# Altium footprint library RESDFN3_500X400X120L120X120N.PcbLib: 1 footprints
Each footprint in its own frame and in the unit in brackets; x right, y up, seen from the top. Pads: shape width x height; smd on the part's side, far side on the other; paste and mask are expansions set on the pad; w line width, h text height; cw(c..) or ccw(c..) is an arc to the next point about the centre after c.
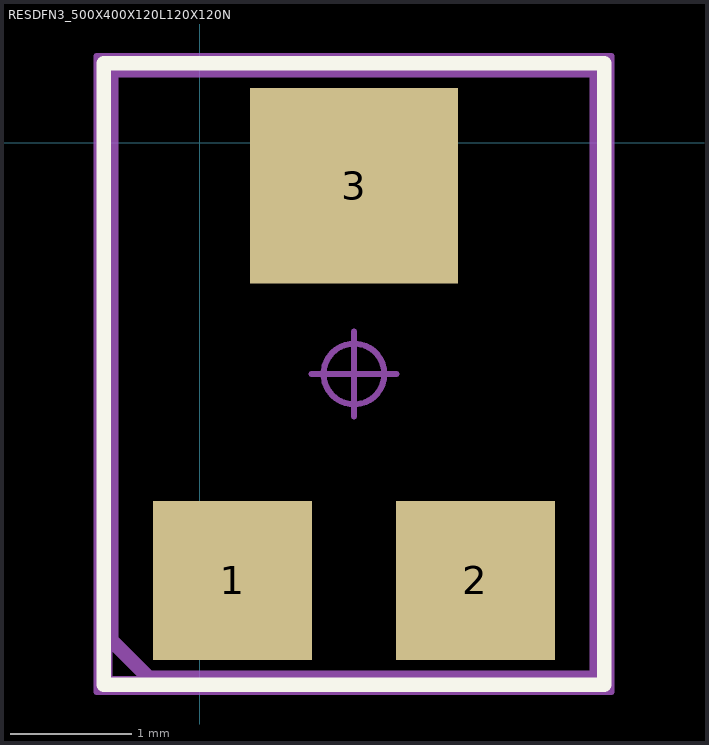
[diagram p0: the footprint, top view; thin cyan lines are the x and y axes]

## RESDFN3_500X400X120L120X120N [mm] "Resistor, Dual Flat No-Lead, 3.25 mm Pitch, 3 pin; 5.00 mm L X 4.00 mm W X 1.20 mm H Body"
height 1.2
pads (3):
  rect 1.312x1.312 smd: 1(0.27,-3.605) 2(2.27,-3.605)
  rect 1.712x1.612 smd paste-1.712: 3(1.27,-0.355)
Top Overlay:
  lines w0.12: -0.79,-4.465 -0.79,0.655 3.33,0.655 3.33,-4.465 -0.79,-4.465
Top Paste:
  region: 1.152,-0.473 1.152,-1.043 0.532,-1.043 0.532,-0.473
  region: 2.008,-0.473 2.008,-1.043 1.388,-1.043 1.388,-0.473
  region: 1.152,0.333 1.152,-0.237 0.532,-0.237 0.532,0.333
  region: 2.008,0.333 2.008,-0.237 1.388,-0.237 1.388,0.333
Mechanical 3:
  lines w0.12: -0.73,-4.096 -0.421,-4.405 3.27,-4.405 3.27,0.595 -0.73,0.595 -0.73,-4.096
Mechanical 5:
  lines w0.025: -0.73,-4.405 -0.73,0.595 3.27,0.595 3.27,-4.405 -0.73,-4.405 ; -0.33,-4.205 -0.33,-3.005 0.87,-3.005 0.87,-4.205 -0.33,-4.205 ; 0.47,-1.105 0.47,0.395 2.07,0.395 2.07,-1.105 0.47,-1.105 ; 1.67,-4.205 1.67,-3.005 2.87,-3.005 2.87,-4.205 1.67,-4.205
Mechanical 7:
  circle w0.05: c1.27,-1.905 r0.25
  lines w0.05: 0.92,-1.905 1.62,-1.905 ; 1.27,-2.255 1.27,-1.555 ; -0.85,-4.525 -0.85,0.715 3.39,0.715 3.39,-4.525 -0.85,-4.525
Mechanical 9:
  text "'.Designator'" at -4.699,3.048 h1.52
3D body: height 3.65, standoff -3.65, extent -0.85,-4.525 3.39,0.715
3D body "RESDFN3_500X400X120L120X120.STEP": height 1.2, standoff 0, extent -0.73,-4.405 3.27,0.595